# Altium schematic symbol library BG96.SchLib: 1 symbol
Pins are listed as number, name and electrical type; pins without a type are passive.

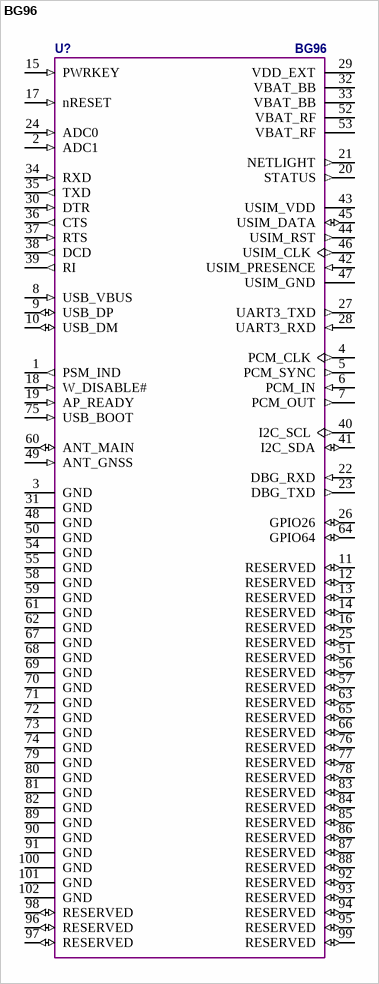
[diagram p0: symbol BG96]

## BG96
designator U?
BG96 is a series of LTE Cat M1/Cat NB1/EGPRS/LPWA module offering maximum data rates of 375Kbps downlink and 375Kbps uplink; Manufacturer Part Number: BG96
pins: 1 PSM_IND (out), 2 ADC1 (in), 3 GND (power), 4 PCM_CLK (out), 5 PCM_SYNC (out), 6 PCM_IN (in), 7 PCM_OUT (out), 8 USB_VBUS (in), 9 USB_DP (io), 10 USB_DM (io), 11 RESERVED (io), 12 RESERVED (io), 13 RESERVED (io), 14 RESERVED (io), 15 PWRKEY (in), 16 RESERVED (io), 17 nRESET (in), 18 W_DISABLE# (in), 19 AP_READY (in), 20 STATUS (out), 21 NETLIGHT (out), 22 DBG_RXD (in), 23 DBG_TXD (out), 24 ADC0 (in), 25 RESERVED (io), 26 GPIO26 (io), 27 UART3_TXD (out), 28 UART3_RXD (in), 29 VDD_EXT (power), 30 DTR (in), 31 GND (power), 32 VBAT_BB (power), 33 VBAT_BB (power), 34 RXD (in), 35 TXD (out), 36 CTS (out), 37 RTS (in), 38 DCD (out), 39 RI (out), 40 I2C_SCL (out), 41 I2C_SDA (io), 42 USIM_PRESENCE (in), 43 USIM_VDD (power), 44 USIM_RST (out), 45 USIM_DATA (io), 46 USIM_CLK (out), 47 USIM_GND (power), 48 GND (power), 49 ANT_GNSS (in), 50 GND (power), 51 RESERVED (io), 52 VBAT_RF (power), 53 VBAT_RF (power), 54 GND (power), 55 GND (power), 56 RESERVED (io), 57 RESERVED (io), 58 GND (power), 59 GND (power), 60 ANT_MAIN (io), 61 GND (power), 62 GND (power), 63 RESERVED (io), 64 GPIO64 (io), 65 RESERVED (io), 66 RESERVED (io), 67 GND (power), 68 GND (power), 69 GND (power), 70 GND (power), 71 GND (power), 72 GND (power), 73 GND (power), 74 GND (power), 75 USB_BOOT (in), 76 RESERVED (io), 77 RESERVED (io), 78 RESERVED (io), 79 GND (power), 80 GND (power), 81 GND (power), 82 GND (power), 83 RESERVED (io), 84 RESERVED (io), 85 RESERVED (io), 86 RESERVED (io), 87 RESERVED (io), 88 RESERVED (io), 89 GND (power), 90 GND (power), 91 GND (power), 92 RESERVED (io), 93 RESERVED (io), 94 RESERVED (io), 95 RESERVED (io), 96 RESERVED (io), 97 RESERVED (io), 98 RESERVED (io), 99 RESERVED (io), 100 GND (power), 101 GND (power), 102 GND (power)